# EAGLE library part LW-N10A2G (library DECADE-libraries20151104)
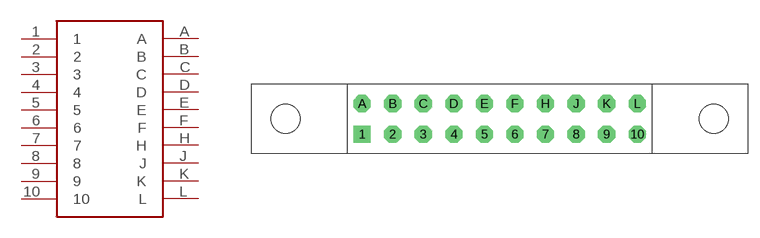
[diagram p134: symbol with the pads of LW-N10A2G; footprint LW-N10A2G]

Designator prefix -

## LW-N10A2G  [LW-N10A2G]
1  1
2  2
3  3
4  4
5  5
6  6
7  7
8  8
9  9
10  10
A  A
B  B
C  C
D  D
E  E
F  F
H  H
J  J
K  K
L  L

## Footprint LW-N10A2G (pad centres in mm)
drill 1.5 square: 1 0,0
drill 1.5 octagon: 2 4,0; 3 8,0; 4 12,0; 5 16,0; 6 20,0; 7 24,0; 8 28,0; 9 32,0; 10 36,0; A 0,4; B 4,4; C 8,4; D 12,4; E 16,4; F 20,4; H 24,4; J 28,4; K 32,4; L 36,4
hole 3.8 at 46,2
hole 3.8 at -10,2